# Altium footprint library MF_MiscLib.PcbLib: 108 footprints (part 7 of 7)
Each footprint in its own frame and in the unit in brackets; x right, y up, seen from the top. Pads: shape width x height; smd on the part's side, far side on the other; paste and mask are expansions set on the pad; w line width, h text height; cw(c..) or ccw(c..) is an arc to the next point about the centre after c.
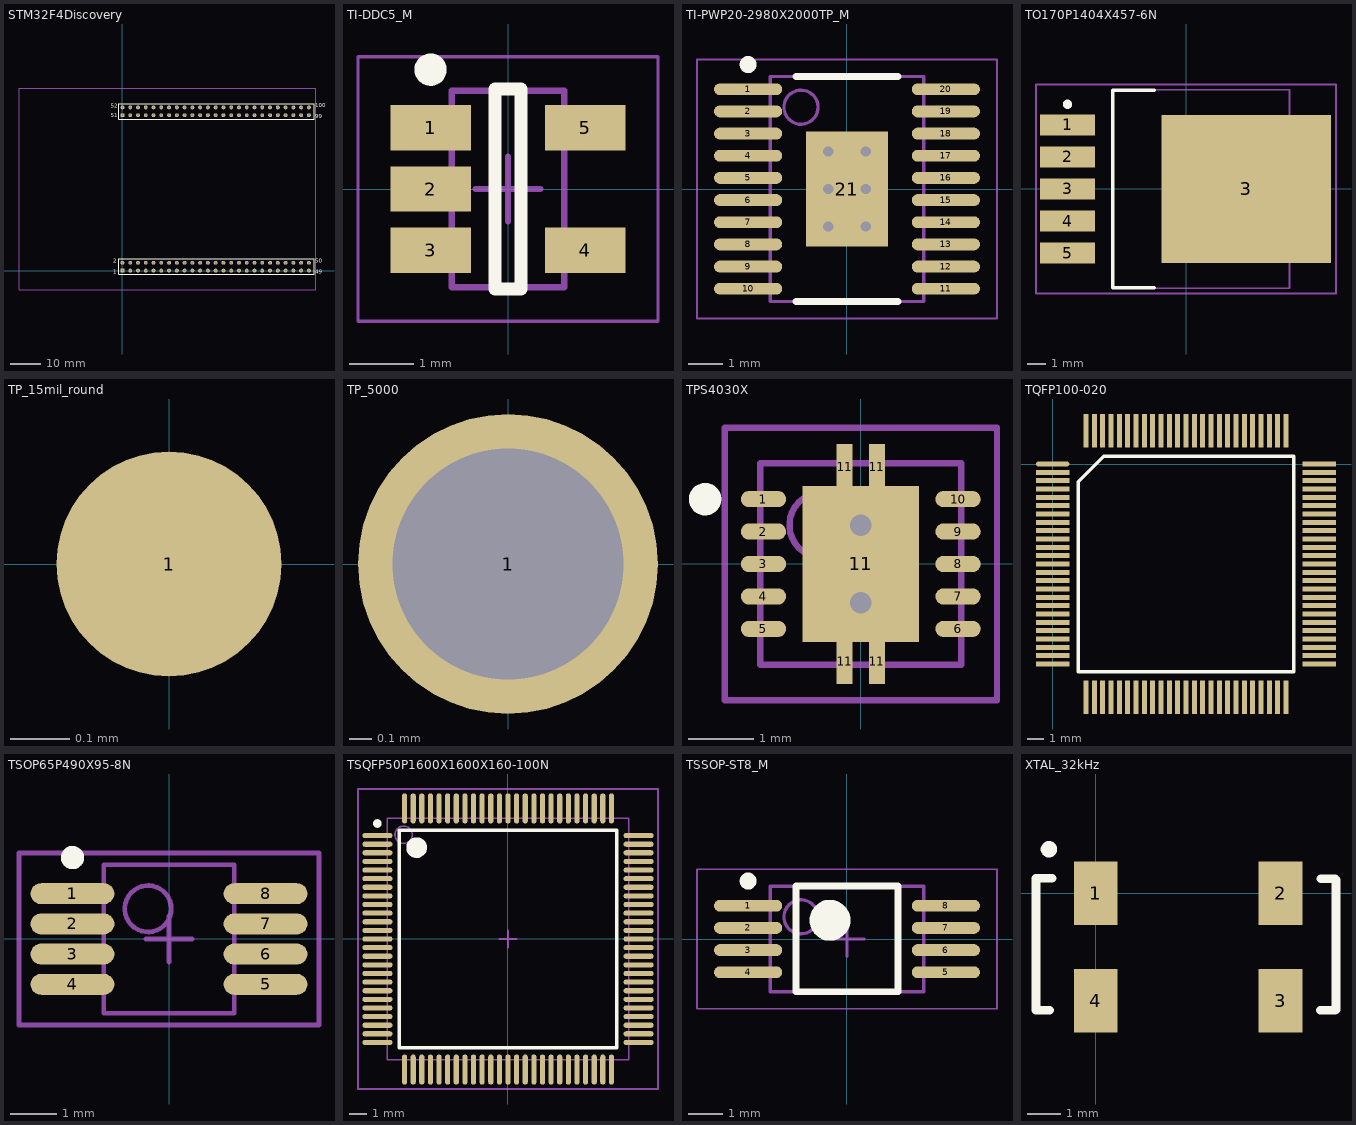
[diagram p6: the footprints below, top view; thin cyan lines are the x and y axes]

## STM32F4Discovery [mil] "STM32F4Discovery Board"
height 275.98
pads (100):
  rect 50x50 hole 30: 1(0,0) 51(0,2000)
  round 50 hole 30: 2(0,100) 3(100,0) 4(100,100) 5(200,0) 6(200,100) 7(300,0) 8(300,100) 9(400,0) 10(400,100) 11(500,0) 12(500,100) 13(600,0) 14(600,100) 15(700,0) 16(700,100) 17(800,0) 18(800,100) 19(900,0) 20(900,100) 21(1000,0) 22(1000,100) 23(1100,0) 24(1100,100) 25(1200,0) 26(1200,100) 27(1300,0) 28(1300,100) 29(1400,0) 30(1400,100) 31(1500,0) 32(1500,100) 33(1600,0) 34(1600,100) 35(1700,0) 36(1700,100) 37(1800,0) 38(1800,100) 39(1900,0) 40(1900,100) 41(2000,0) 42(2000,100) 43(2100,0) 44(2100,100) 45(2200,0) 46(2200,100) 47(2300,0) 48(2300,100) 49(2400,0) 50(2400,100) 52(0,2100) 53(100,2000) 54(100,2100) 55(200,2000) 56(200,2100) 57(300,2000) 58(300,2100) 59(400,2000) 60(400,2100) 61(500,2000) 62(500,2100) 63(600,2000) 64(600,2100) 65(700,2000) 66(700,2100) 67(800,2000) 68(800,2100) 69(900,2000) 70(900,2100) 71(1000,2000) 72(1000,2100) 73(1100,2000) 74(1100,2100) 75(1200,2000) 76(1200,2100) 77(1300,2000) 78(1300,2100) 79(1400,2000) 80(1400,2100) 81(1500,2000) 82(1500,2100) 83(1600,2000) 84(1600,2100) 85(1700,2000) 86(1700,2100) 87(1800,2000) 88(1800,2100) 89(1900,2000) 90(1900,2100) 91(2000,2000) 92(2000,2100) 93(2100,2000) 94(2100,2100) 95(2200,2000) 96(2200,2100) 97(2300,2000) 98(2300,2100) 99(2400,2000) 100(2400,2100)
Top Overlay:
  lines w10: -50,-50 2466.93,-50 2466.93,150 -50,150 -50,-50 ; -50,1950 -50,2150 2466.93,2150 2466.93,1950 -50,1950
  text "52" at -152.24,2096.26 h50
  text "51" at -147.91,1976.65 h50
  text "99" at 2480,1960 h50
  text "100" at 2480,2100 h50
  text "50" at 2480,100 h50
  text "49" at 2480,-40 h50
  text "1" at -120,-40 h50
  text "2" at -120,100 h50
Bottom Solder:
Mechanical 3:
  lines w10: -1331.5,-249.21 2487.4,-249.21 2487.4,2349.21 -1331.5,2349.21 -1331.5,-249.21
3D body: height 338.58, standoff 0, extent -49.98,1950.02 2466.91,2149.98
3D body: height 338.58, standoff 0, extent -49.98,-49.98 2466.91,149.98
3D body: height 708.66, standoff 444.88, extent -1336.5,-254.21 2492.4,2354.21

## TI-DDC5_M [mm] "SOT23, 5-Leads, Body 2.9x1.6mm, Pitch 0.95mm, IPC Low Density"
height 1.1
pads (5):
  rect 1.25x0.7 smd: 1(-1.2,0.95) 2(-1.2,0) 3(-1.2,-0.95) 4(1.2,-0.95) 5(1.2,0.95)
Top Overlay:
  circle w0.25: c-1.2,1.85 r0.125
  lines w0.2: -0.2,-1.55 -0.2,1.55 0.2,1.55 0.2,-1.55 -0.2,-1.55
Mechanical 13:
  lines w0.1: -0.875,-1.525 0.875,-1.525 0.875,1.525 -0.875,1.525 -0.875,-1.525
Mechanical 15:
  lines w0.05: -2.325,-2.05 2.325,-2.05 2.325,2.05 -2.325,2.05 -2.325,-2.05
  lines w0.1: -0.5,0 0.5,0 ; 0,-0.5 0,0.5
3D body: height 1.1, standoff 0, extent -0.875,-1.525 0.875,1.525

## TI-PWP20-2980X2000TP_M [mm] "SOP, 20-Leads, Body 6.5x4.4mm, Pitch 0.65mm, Thermal Pad 2.975x2 mm, IPC Low Density"
height 1.2
pads (21):
  oval 2x0.35 smd: 1(-2.9,2.925) 2(-2.9,2.275) 3(-2.9,1.625) 4(-2.9,0.975) 5(-2.9,0.325) 6(-2.9,-0.325) 7(-2.9,-0.975) 8(-2.9,-1.625) 9(-2.9,-2.275) 10(-2.9,-2.925) 11(2.9,-2.925) 12(2.9,-2.275) 13(2.9,-1.625) 14(2.9,-0.975) 15(2.9,-0.325) 16(2.9,0.325) 17(2.9,0.975) 18(2.9,1.625) 19(2.9,2.275) 20(2.9,2.925)
  rect 2.4x3.38 smd: 21(0,0)
via 0.55,-1.1 diameter 0.61 hole 0.305
via -0.55,-1.1 diameter 0.61 hole 0.305
via 0.55,0 diameter 0.61 hole 0.305
via -0.55,0 diameter 0.61 hole 0.305
via 0.55,1.1 diameter 0.61 hole 0.305
via -0.55,1.1 diameter 0.61 hole 0.305
Top Overlay:
  circle w0.25: c-2.9,3.65 r0.125
  lines w0.2: -1.5,-3.3 1.5,-3.3 ; -1.5,3.3 1.5,3.3
Mechanical 13:
  circle w0.1: c-1.35,2.4 r0.5
  lines w0.1: -2.25,-3.3 2.25,-3.3 2.25,3.3 -2.25,3.3 -2.25,-3.3
Mechanical 15:
  lines w0.05: -4.4,-3.8 4.4,-3.8 4.4,3.8 -4.4,3.8 -4.4,-3.8
  lines w0.1: -0.5,0 0.5,0 ; 0,-0.5 0,0.5
3D body: height 1.2, standoff 0.05, extent -2.25,-3.3 2.25,3.3

## TO170P1404X457-6N [mm] "D2-PAK, 6-Pads, Body 9.4x10.5mm (max), IPC Medium Density"
height 4.572
pads (6):
  rect 2.9x1.1 smd: 1(-6.3,3.404) 2(-6.3,1.702) 3(-6.3,0) 4(-6.3,-1.702) 5(-6.3,-3.404)
  rect 9x7.85 smd: 3(3.2,0)
Top Overlay:
  circle w0.25: c-6.3,4.504 r0.125
  lines w0.2: -1.7,-5.25 -3.9,-5.25 -3.9,5.25 -1.7,5.25
Mechanical 13:
  lines w0.1: -3.9,-5.275 5.5,-5.275 5.5,5.275 -3.9,5.275 -3.9,-5.275
Mechanical 15:
  lines w0.1: -0.5,0 0.5,0 ; 0,-0.5 0,0.5 ; -7.975,-5.55 7.975,-5.55 7.975,5.55 -7.975,5.55 -7.975,-5.55
3D body: height 4.57, standoff 0, extent -3.9,-5.275 5.5,5.275

## TP_15mil_round [mil] "Testpoint 15 mil round"
pads (1):
  round 15 smd: 1(0,0)

## TP_5000 [mil] "Testpoint 40mil hole, Keystone 5000"
height 181.1
pads (1):
  round 52 hole 40: 1(0,0)
3D body: height 181.1, standoff 0, extent -30,-30 30,30

## TPS4030X [mm] "QFN, 14-Leads, Body 3.1x3.1mm (max), Pitch 0.50mm, IPC Medium Density"
height 1
pads (15):
  oval 0.7x0.25 smd: 1(-1.5,1) 2(-1.5,0.5) 3(-1.5,0) 4(-1.5,-0.5) 5(-1.5,-1) 6(1.5,-1) 7(1.5,-0.5) 8(1.5,0) 9(1.5,0.5) 10(1.5,1)
  rect 0.25x0.7 smd: 11(-0.25,-1.5) 11(-0.25,1.5) 11(0.25,-1.5) 11(0.25,1.5)
  rect 1.8x2.4 all layers, no hole: 11(0,0)
via 0,0.6 diameter 0.66 hole 0.33
via 0,-0.6 diameter 0.66 hole 0.33
Top Overlay:
  circle w0.25: c-2.4,1 r0.125
Mechanical 13:
  circle w0.1: c-0.6,0.6 r0.5
  lines w0.1: -1.55,-1.55 -1.55,1.55 1.55,1.55 1.55,-1.55 -1.55,-1.55
Mechanical 15:
  lines w0.1: -0.5,0 0.5,0 ; 0,-0.5 0,0.5 ; -2.1,-2.1 -2.1,2.1 2.1,2.1 2.1,-2.1 -2.1,-2.1
3D body: height 1, standoff 0.05, extent -1.55,-1.55 1.55,1.55

## TQFP100-020 [mm]
pads (100):
  oval 2x0.3 smd: 1(0,0)
  rect 2x0.3 smd: 2(0,-0.5) 3(0,-1) 4(0,-1.5) 5(0,-2) 6(0,-2.5) 7(0,-3) 8(0,-3.5) 9(0,-4) 10(0,-4.5) 11(0,-5) 12(0,-5.5) 13(0,-6) 14(0,-6.5) 15(0,-7) 16(0,-7.5) 17(0,-8) 18(0,-8.5) 19(0,-9) 20(0,-9.5) 21(0,-10) 22(0,-10.5) 23(0,-11) 24(0,-11.5) 25(0,-12) 51(16,-12) 52(16,-11.5) 53(16,-11) 54(16,-10.5) 55(16,-10) 56(16,-9.5) 57(16,-9) 58(16,-8.5) 59(16,-8) 60(16,-7.5) 61(16,-7) 62(16,-6.5) 63(16,-6) 64(16,-5.5) 65(16,-5) 66(16,-4.5) 67(16,-4) 68(16,-3.5) 69(16,-3) 70(16,-2.5) 71(16,-2) 72(16,-1.5) 73(16,-1) 74(16,-0.5) 75(16,0)
  rect 0.3x2 smd: 26(2,-14) 27(2.5,-14) 28(3,-14) 29(3.5,-14) 30(4,-14) 31(4.5,-14) 32(5,-14) 33(5.5,-14) 34(6,-14) 35(6.5,-14) 36(7,-14) 37(7.5,-14) 38(8,-14) 39(8.5,-14) 40(9,-14) 41(9.5,-14) 42(10,-14) 43(10.5,-14) 44(11,-14) 45(11.5,-14) 46(12,-14) 47(12.5,-14) 48(13,-14) 49(13.5,-14) 50(14,-14) 76(14,2) 77(13.5,2) 78(13,2) 79(12.5,2) 80(12,2) 81(11.5,2) 82(11,2) 83(10.5,2) 84(10,2) 85(9.5,2) 86(9,2) 87(8.5,2) 88(8,2) 89(7.5,2) 90(7,2) 91(6.5,2) 92(6,2) 93(5.5,2) 94(5,2) 95(4.5,2) 96(4,2) 97(3.5,2) 98(3,2) 99(2.5,2) 100(2,2)
Top Overlay:
  lines w0.2: 1.535,-12.465 14.465,-12.465 14.465,0.465 3.07,0.465 1.535,-1.07 1.535,-12.465

## TSOP65P490X95-8N [mm] "TSOP, 8-Leads, Body 3.2x2.8mm (max), Pitch 0.65mm, IPC Medium Density"
height 0.95
pads (8):
  oval 1.8x0.45 smd: 1(-2.075,0.975) 2(-2.075,0.325) 3(-2.075,-0.325) 4(-2.075,-0.975) 5(2.075,-0.975) 6(2.075,-0.325) 7(2.075,0.325) 8(2.075,0.975)
Top Overlay:
  circle w0.25: c-2.075,1.75 r0.125
Mechanical 13:
  circle w0.1: c-0.45,0.65 r0.5
  lines w0.1: -1.4,-1.6 1.4,-1.6 1.4,1.6 -1.4,1.6 -1.4,-1.6
Mechanical 15:
  lines w0.1: -0.5,0 0.5,0 ; 0,-0.5 0,0.5 ; -3.225,-1.85 3.225,-1.85 3.225,1.85 -3.225,1.85 -3.225,-1.85
3D body: height 0.95, standoff 0.15, extent -1.4,-1.6 1.4,1.6

## TSQFP50P1600X1600X160-100N [mm] "TSQFP, 100-Leads, Body 16.2x16.2mm (max), Pitch 0.50mm, IPC Medium Density"
height 1.6
pads (100):
  oval 1.75x0.3 smd: 1(-7.575,6) 2(-7.575,5.5) 3(-7.575,5) 4(-7.575,4.5) 5(-7.575,4) 6(-7.575,3.5) 7(-7.575,3) 8(-7.575,2.5) 9(-7.575,2) 10(-7.575,1.5) 11(-7.575,1) 12(-7.575,0.5) 13(-7.575,0) 14(-7.575,-0.5) 15(-7.575,-1) 16(-7.575,-1.5) 17(-7.575,-2) 18(-7.575,-2.5) 19(-7.575,-3) 20(-7.575,-3.5) 21(-7.575,-4) 22(-7.575,-4.5) 23(-7.575,-5) 24(-7.575,-5.5) 25(-7.575,-6) 51(7.575,-6) 52(7.575,-5.5) 53(7.575,-5) 54(7.575,-4.5) 55(7.575,-4) 56(7.575,-3.5) 57(7.575,-3) 58(7.575,-2.5) 59(7.575,-2) 60(7.575,-1.5) 61(7.575,-1) 62(7.575,-0.5) 63(7.575,0) 64(7.575,0.5) 65(7.575,1) 66(7.575,1.5) 67(7.575,2) 68(7.575,2.5) 69(7.575,3) 70(7.575,3.5) 71(7.575,4) 72(7.575,4.5) 73(7.575,5) 74(7.575,5.5) 75(7.575,6)
  oval 0.3x1.75 smd: 26(-6,-7.575) 27(-5.5,-7.575) 28(-5,-7.575) 29(-4.5,-7.575) 30(-4,-7.575) 31(-3.5,-7.575) 32(-3,-7.575) 33(-2.5,-7.575) 34(-2,-7.575) 35(-1.5,-7.575) 36(-1,-7.575) 37(-0.5,-7.575) 38(0,-7.575) 39(0.5,-7.575) 40(1,-7.575) 41(1.5,-7.575) 42(2,-7.575) 43(2.5,-7.575) 44(3,-7.575) 45(3.5,-7.575) 46(4,-7.575) 47(4.5,-7.575) 48(5,-7.575) 49(5.5,-7.575) 50(6,-7.575) 76(6,7.575) 77(5.5,7.575) 78(5,7.575) 79(4.5,7.575) 80(4,7.575) 81(3.5,7.575) 82(3,7.575) 83(2.5,7.575) 84(2,7.575) 85(1.5,7.575) 86(1,7.575) 87(0.5,7.575) 88(0,7.575) 89(-0.5,7.575) 90(-1,7.575) 91(-1.5,7.575) 92(-2,7.575) 93(-2.5,7.575) 94(-3,7.575) 95(-3.5,7.575) 96(-4,7.575) 97(-4.5,7.575) 98(-5,7.575) 99(-5.5,7.575) 100(-6,7.575)
Top Overlay:
  circle w0.6: c-5.3,5.3 r0.3
  circle w0.25: c-7.575,6.7 r0.125
  lines w0.2: -6.3,-6.3 6.3,-6.3 6.3,6.3 -6.3,6.3 -6.3,-6.3
Mechanical 13:
  circle w0.1: c-6.05,6.05 r0.5
  lines w0.1: -7,-7 7,-7 7,7 -7,7 -7,-7
Mechanical 15:
  lines w0.1: -0.5,0 0.5,0 ; 0,-0.5 0,0.5 ; -8.7,-8.7 8.7,-8.7 8.7,8.7 -8.7,8.7 -8.7,-8.7
3D body: height 1.6, standoff 0.05, extent -7,-7 7,7

## TSSOP-ST8_M [mm] "TSOP, 8-Leads, Body 3x4.4mm, Pitch 0.65mm, IPC Low Density"
height 1.2
pads (8):
  oval 2x0.35 smd: 1(-2.9,0.975) 2(-2.9,0.325) 3(-2.9,-0.325) 4(-2.9,-0.975) 5(2.9,-0.975) 6(2.9,-0.325) 7(2.9,0.325) 8(2.9,0.975)
Top Overlay:
  circle w0.25: c-2.9,1.7 r0.125
  circle w0.6: c-0.5,0.55 r0.3
  lines w0.2: -1.5,-1.55 -1.5,1.55 1.5,1.55 1.5,-1.55 -1.5,-1.55
Mechanical 13:
  circle w0.1: c-1.35,0.65 r0.5
  lines w0.1: -2.25,-1.55 -2.25,1.55 2.25,1.55 2.25,-1.55 -2.25,-1.55
Mechanical 15:
  lines w0.05: -4.4,-2.05 -4.4,2.05 4.4,2.05 4.4,-2.05 -4.4,-2.05
  lines w0.1: -0.5,0 0.5,0 ; 0,-0.5 0,0.5
3D body: height 1.2, standoff 0.05, extent -2.25,-1.55 2.25,1.55

## XTAL_32kHz [mm] "Cardinal CPFB"
height 2.5
pads (4):
  rect 1.3x1.9 smd: 1(0,0) 2(5.5,0) 3(5.5,-3.2) 4(0,-3.2)
Top Overlay:
  circle w0.254: c-1.397,1.311 r0.117
  lines w0.254: -1.379,-3.478 -1.782,-3.478 -1.782,0.449 -1.304,0.449 ; 6.683,-3.489 7.121,-3.489 7.121,-3.474 7.151,-3.474 7.151,-3.097 7.151,0.405 7.121,0.435 6.698,0.435
3D body: height 2.5, standoff 0, extent -1.676,-3.374 7.024,0.326